# EAGLE library part IRF7455 (library lbm)
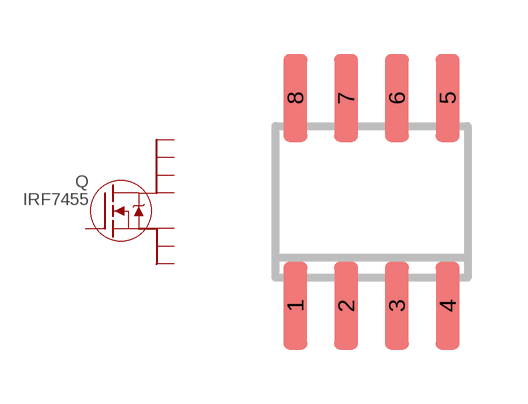
[diagram p18: symbol with the pads of SO8; footprint SO8]

Designator prefix Q

## IRF7455  [SO8]
1  S2
2  S1
3  S
4  G
5  D
6  D
7  D
8  D

## Footprint SO8 (pad centres in mm)
smd 0.6 x 2.2: 1 -1.905,-2.6; 2 -0.635,-2.6; 3 0.635,-2.6; 4 1.905,-2.6; 5 1.905,2.6; 6 0.635,2.6; 7 -0.635,2.6; 8 -1.905,2.6